# Altium footprint library Air208.PcbLib: 2 footprints
Each footprint in its own frame and in the unit in brackets; x right, y up, seen from the top. Pads: shape width x height; smd on the part's side, far side on the other; paste and mask are expansions set on the pad; w line width, h text height; cw(c..) or ccw(c..) is an arc to the next point about the centre after c.
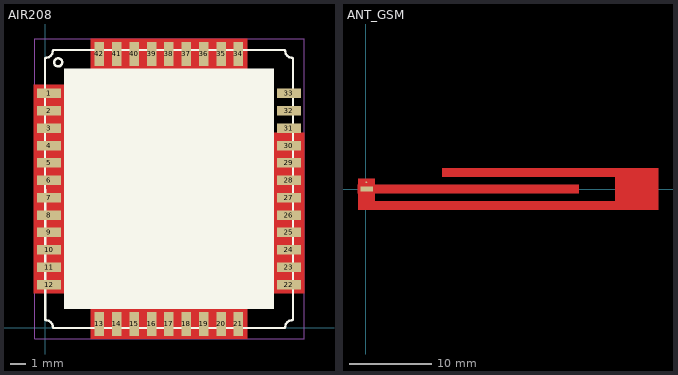
[diagram p0: the footprints below, top view; thin cyan lines are the x and y axes]

## AIR208 [mm]
pads (42):
  rect 1.5x0.6 smd: 1(0.25,14.85) 2(0.25,13.75) 3(0.25,12.65) 4(0.25,11.55) 5(0.25,10.45) 6(0.25,9.35) 7(0.25,8.25) 8(0.25,7.15) 9(0.25,6.05) 10(0.25,4.95) 11(0.25,3.85) 12(0.25,2.75) 22(15.45,2.75) 23(15.45,3.85) 24(15.45,4.95) 25(15.45,6.05) 26(15.45,7.15) 27(15.45,8.25) 28(15.45,9.35) 29(15.45,10.45) 30(15.45,11.55) 31(15.45,12.65) 32(15.45,13.75) 33(15.45,14.85)
  rect 0.6x1.5 smd: 13(3.446,0.25) 14(4.546,0.25) 15(5.646,0.25) 16(6.746,0.25) 17(7.846,0.25) 18(8.946,0.25) 19(10.046,0.25) 20(11.146,0.25) 21(12.246,0.25) 34(12.246,17.35) 35(11.146,17.35) 36(10.046,17.35) 37(8.946,17.35) 38(7.846,17.35) 39(6.746,17.35) 40(5.646,17.35) 41(4.546,17.35) 42(3.446,17.35)
Top Layer:
  pour cut-out: -0.7,15.4 1.2,15.4 1.2,2.2 -0.7,2.2
  pour cut-out: 2.9,1.2 12.8,1.2 12.8,-0.7 2.9,-0.7
  pour cut-out: 14.5,12.35 16.4,12.35 16.4,2.2 14.5,2.2
  pour cut-out: 2.9,18.3 12.8,18.3 12.8,16.4 2.9,16.4
Top Overlay:
  circle w0.15: c0.831,16.821 r0.254
  region: 1.2,16.4 14.5,16.4 14.5,1.2 1.2,1.2
  lines w0.15: 0,17.1 ccw(c0,17.6) 0.5,17.6 15.2,17.6 ccw(c15.7,17.6) 15.7,17.1 15.7,0.5 ccw(c15.7,0) 15.2,0 0.504,0 ccw(c0.004,0) 0.004,0.5 0,17.1
Mechanical 1:
  lines w0.025: -0.65,-0.7 16.4,-0.7 16.4,18.3 -0.65,18.3 -0.65,-0.7

## ANT_GSM [mm]
pads (2):
  round 0.2 smd: 1(0.106,0.82)
  rect 1.5x0.6 smd: 1(0.127,0)
Top Layer:
  region: 30.211,2.5 30.211,-2.5 35.379,-2.5 35.379,2.5
  region: 9.303,2.5 9.303,1.5 32.234,1.5 32.234,2.5
  region: -0.91,-1.5 -0.91,-2.5 31.358,-2.5 31.358,-1.5
  region: -0.918,0.5 -0.918,-0.5 25.803,-0.5 25.803,0.5
  region: -0.875,-2.43 1.127,-2.43 1.127,1.251 -0.875,1.251